# Altium integrated library Renesas Microcontroller R8C.IntLib: 628 symbols (part 33 of 33)
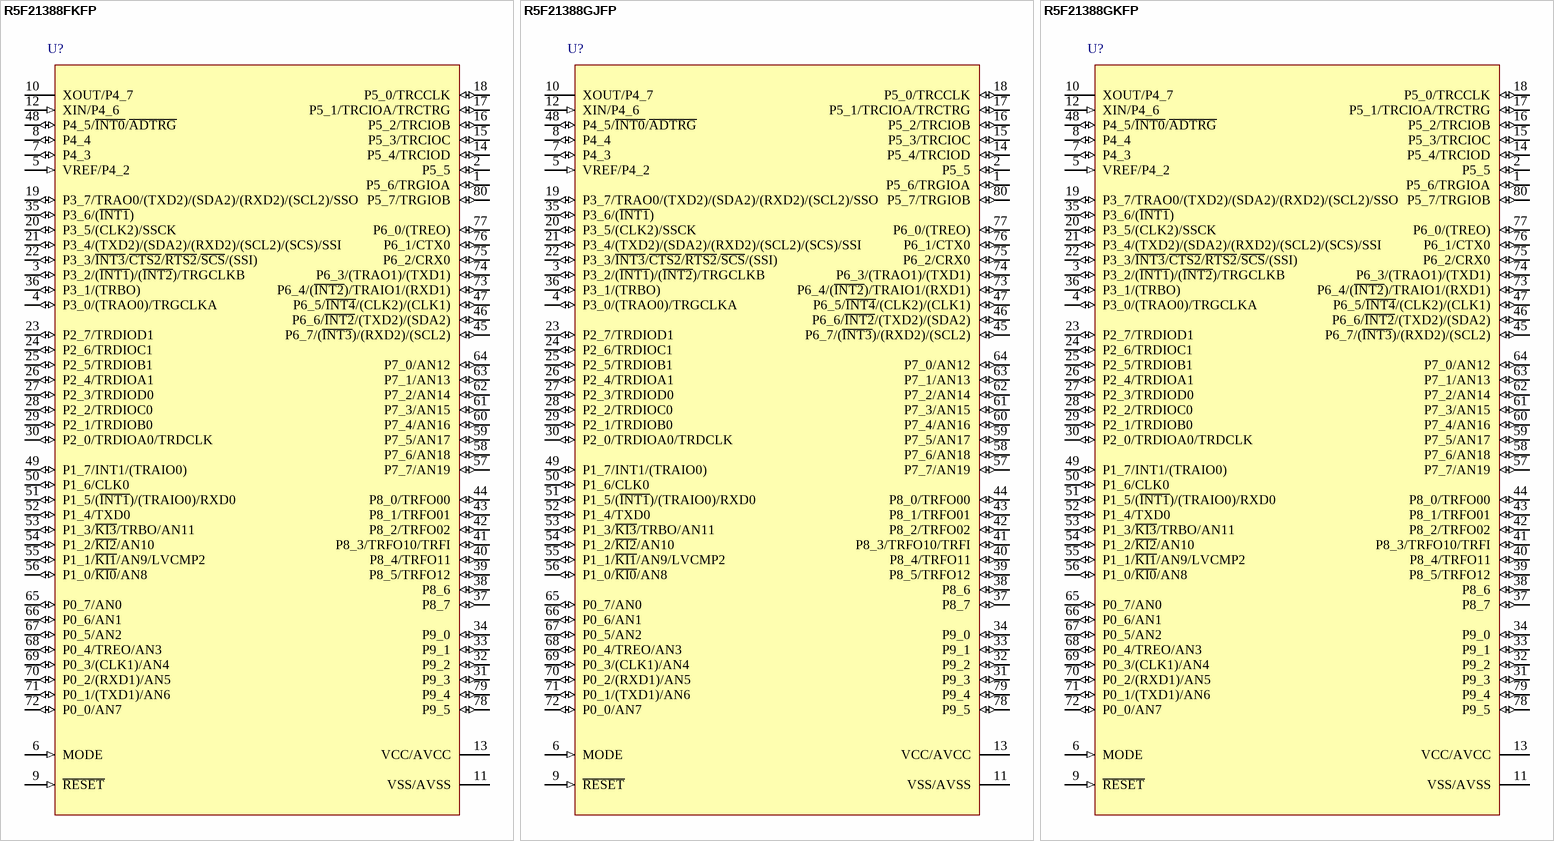
[diagram p148: symbols R5F21388FKFP to R5F21388GKFP]

## R5F21388GKFP
designator U?
R8C/38G Group Single Chip 16-Bit CMOS MCU, 64K ROM + 1K x4 Data Flash, 6K RAM, K Version; Published: 30-Oct-2009; DatasheetVersion: Rev.0.10, Apr-2008; PackageVersion: Sep-2005; PackageReference: PLQP0080KB-A; Publisher: Altium Limited; PackageDescription: 80-Pin Plastic Low Profile QFP, 12 x 12 x 1.4 mm Body, 0.5 mm Pitch; Code_JEITA: P-LQFP80-12x12-0.50; Code_IPC: SQFP50P1400X1400-80; ComponentLink1Description: Manufacturer Link; ComponentLink1URL: http://sg.renesas.com/fmwk.jsp?cnt=r8c_family_landing.jsp&fp=/products/mpumcu/r8c_family/; ComponentLink2Description: Datasheet; ComponentLink2URL: http://documentation.renesas.com/eng/products/mpumcu/rej03b0248_r8c38ess.pdf; ComponentLink3Description: Packaging Specification; ComponentLink3URL: http://sg.renesas.com/media/products/common_info/package/pdf/ic/code/plqp0080kb_a.pdf
footprint PLQP0080KB-A_N (Shrink QFP, 80-Leads, Body 12x12mm, Pitch 0.5mm, IPC Medium Density)
footprint PLQP0080KB-A_L (Shrink QFP, 80-Leads, Body 12x12mm, Pitch 0.5mm, IPC High Density)
footprint PLQP0080KB-A_M (Shrink QFP, 80-Leads, Body 12x12mm, Pitch 0.5mm, IPC Low Density)
pins: 1 P5_6/TRGIOA (io), 2 P5_5 (io), 3 P3_2/(~{INT1})/(~{INT2})/TRGCLKB (io), 4 P3_0/(TRAO0)/TRGCLKA (io), 5 VREF/P4_2 (in), 6 MODE (in), 7 P4_3 (io), 8 P4_4 (io), 9 ~{RESET} (in), 10 XOUT/P4_7, 11 VSS/AVSS (power), 12 XIN/P4_6 (in), 13 VCC/AVCC (power), 14 P5_4/TRCIOD (io), 15 P5_3/TRCIOC (io), 16 P5_2/TRCIOB (io), 17 P5_1/TRCIOA/TRCTRG (io), 18 P5_0/TRCCLK (io), 19 P3_7/TRAO0/(TXD2)/(SDA2)/(RXD2)/(SCL2)/SSO (io), 20 P3_5/(CLK2)/SSCK (io), 21 P3_4/(TXD2)/(SDA2)/(RXD2)/(SCL2)/(SCS)/SSI (io), 22 P3_3/~{INT3}/~{CTS2}/~{RTS2}/~{SCS}/(SSI) (io), 23 P2_7/TRDIOD1 (io), 24 P2_6/TRDIOC1 (io), 25 P2_5/TRDIOB1 (io), 26 P2_4/TRDIOA1 (io), 27 P2_3/TRDIOD0 (io), 28 P2_2/TRDIOC0 (io), 29 P2_1/TRDIOB0 (io), 30 P2_0/TRDIOA0/TRDCLK (io), 31 P9_3 (io), 32 P9_2 (io), 33 P9_1 (io), 34 P9_0 (io), 35 P3_6/(~{INT1}) (io), 36 P3_1/(TRBO) (io), 37 P8_7 (io), 38 P8_6 (io), 39 P8_5/TRFO12 (io), 40 P8_4/TRFO11 (io), 41 P8_3/TRFO10/TRFI (io), 42 P8_2/TRFO02 (io), 43 P8_1/TRFO01 (io), 44 P8_0/TRFO00 (io), 45 P6_7/(~{INT3})/(RXD2)/(SCL2) (io), 46 P6_6/~{INT2}/(TXD2)/(SDA2) (io), 47 P6_5/~{INT4}/(CLK2)/(CLK1) (io), 48 P4_5/~{INT0}/~{ADTRG} (io), 49 P1_7/INT1/(TRAIO0) (io), 50 P1_6/CLK0 (io), 51 P1_5/(~{INT1})/(TRAIO0)/RXD0 (io), 52 P1_4/TXD0 (io), 53 P1_3/~{KI3}/TRBO/AN11 (io), 54 P1_2/~{KI2}/AN10 (io), 55 P1_1/~{KI1}/AN9/LVCMP2 (io), 56 P1_0/~{KI0}/AN8 (io), 57 P7_7/AN19 (io), 58 P7_6/AN18 (io), 59 P7_5/AN17 (io), 60 P7_4/AN16 (io), 61 P7_3/AN15 (io), 62 P7_2/AN14 (io), 63 P7_1/AN13 (io), 64 P7_0/AN12 (io), 65 P0_7/AN0 (io), 66 P0_6/AN1 (io), 67 P0_5/AN2 (io), 68 P0_4/TREO/AN3 (io), 69 P0_3/(CLK1)/AN4 (io), 70 P0_2/(RXD1)/AN5 (io), 71 P0_1/(TXD1)/AN6 (io), 72 P0_0/AN7 (io), 73 P6_4/(~{INT2})/TRAIO1/(RXD1) (io), 74 P6_3/(TRAO1)/(TXD1) (io), 75 P6_2/CRX0 (io), 76 P6_1/CTX0 (io), 77 P6_0/(TREO) (io), 78 P9_5 (io), 79 P9_4 (io), 80 P5_7/TRGIOB (io)

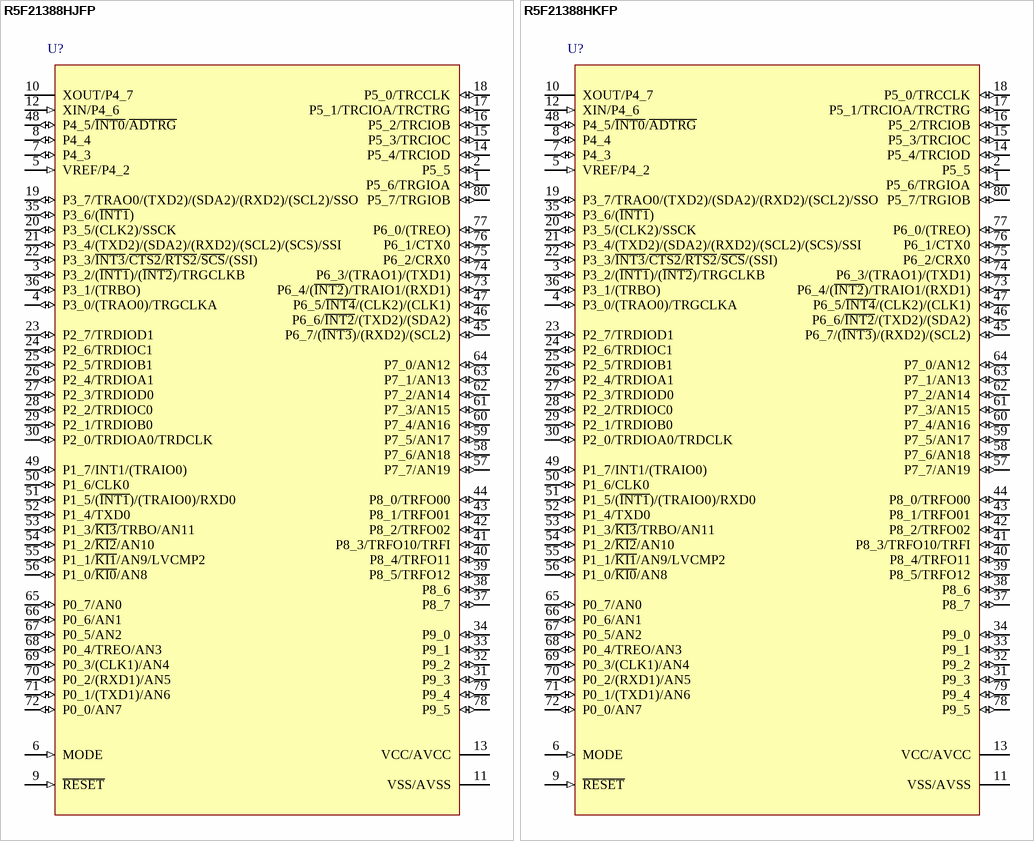
[diagram p116: symbols R5F21388HJFP to R5F21388HKFP]

## R5F21388HJFP
designator U?
R8C/38H Group Single Chip 16-Bit CMOS MCU, 64K ROM, 6K RAM, J Version; Published: 30-Oct-2009; DatasheetVersion: Rev.0.10, Apr-2008; PackageVersion: Sep-2005; PackageReference: PLQP0080KB-A; Publisher: Altium Limited; PackageDescription: 80-Pin Plastic Low Profile QFP, 12 x 12 x 1.4 mm Body, 0.5 mm Pitch; Code_JEITA: P-LQFP80-12x12-0.50; Code_IPC: SQFP50P1400X1400-80; ComponentLink1Description: Manufacturer Link; ComponentLink1URL: http://sg.renesas.com/fmwk.jsp?cnt=r8c_family_landing.jsp&fp=/products/mpumcu/r8c_family/; ComponentLink2Description: Datasheet; ComponentLink2URL: http://documentation.renesas.com/eng/products/mpumcu/rej03b0248_r8c38ess.pdf; ComponentLink3Description: Packaging Specification; ComponentLink3URL: http://sg.renesas.com/media/products/common_info/package/pdf/ic/code/plqp0080kb_a.pdf
footprint PLQP0080KB-A_N (Shrink QFP, 80-Leads, Body 12x12mm, Pitch 0.5mm, IPC Medium Density)
footprint PLQP0080KB-A_L (Shrink QFP, 80-Leads, Body 12x12mm, Pitch 0.5mm, IPC High Density)
footprint PLQP0080KB-A_M (Shrink QFP, 80-Leads, Body 12x12mm, Pitch 0.5mm, IPC Low Density)
pins: 1 P5_6/TRGIOA (io), 2 P5_5 (io), 3 P3_2/(~{INT1})/(~{INT2})/TRGCLKB (io), 4 P3_0/(TRAO0)/TRGCLKA (io), 5 VREF/P4_2 (in), 6 MODE (in), 7 P4_3 (io), 8 P4_4 (io), 9 ~{RESET} (in), 10 XOUT/P4_7, 11 VSS/AVSS (power), 12 XIN/P4_6 (in), 13 VCC/AVCC (power), 14 P5_4/TRCIOD (io), 15 P5_3/TRCIOC (io), 16 P5_2/TRCIOB (io), 17 P5_1/TRCIOA/TRCTRG (io), 18 P5_0/TRCCLK (io), 19 P3_7/TRAO0/(TXD2)/(SDA2)/(RXD2)/(SCL2)/SSO (io), 20 P3_5/(CLK2)/SSCK (io), 21 P3_4/(TXD2)/(SDA2)/(RXD2)/(SCL2)/(SCS)/SSI (io), 22 P3_3/~{INT3}/~{CTS2}/~{RTS2}/~{SCS}/(SSI) (io), 23 P2_7/TRDIOD1 (io), 24 P2_6/TRDIOC1 (io), 25 P2_5/TRDIOB1 (io), 26 P2_4/TRDIOA1 (io), 27 P2_3/TRDIOD0 (io), 28 P2_2/TRDIOC0 (io), 29 P2_1/TRDIOB0 (io), 30 P2_0/TRDIOA0/TRDCLK (io), 31 P9_3 (io), 32 P9_2 (io), 33 P9_1 (io), 34 P9_0 (io), 35 P3_6/(~{INT1}) (io), 36 P3_1/(TRBO) (io), 37 P8_7 (io), 38 P8_6 (io), 39 P8_5/TRFO12 (io), 40 P8_4/TRFO11 (io), 41 P8_3/TRFO10/TRFI (io), 42 P8_2/TRFO02 (io), 43 P8_1/TRFO01 (io), 44 P8_0/TRFO00 (io), 45 P6_7/(~{INT3})/(RXD2)/(SCL2) (io), 46 P6_6/~{INT2}/(TXD2)/(SDA2) (io), 47 P6_5/~{INT4}/(CLK2)/(CLK1) (io), 48 P4_5/~{INT0}/~{ADTRG} (io), 49 P1_7/INT1/(TRAIO0) (io), 50 P1_6/CLK0 (io), 51 P1_5/(~{INT1})/(TRAIO0)/RXD0 (io), 52 P1_4/TXD0 (io), 53 P1_3/~{KI3}/TRBO/AN11 (io), 54 P1_2/~{KI2}/AN10 (io), 55 P1_1/~{KI1}/AN9/LVCMP2 (io), 56 P1_0/~{KI0}/AN8 (io), 57 P7_7/AN19 (io), 58 P7_6/AN18 (io), 59 P7_5/AN17 (io), 60 P7_4/AN16 (io), 61 P7_3/AN15 (io), 62 P7_2/AN14 (io), 63 P7_1/AN13 (io), 64 P7_0/AN12 (io), 65 P0_7/AN0 (io), 66 P0_6/AN1 (io), 67 P0_5/AN2 (io), 68 P0_4/TREO/AN3 (io), 69 P0_3/(CLK1)/AN4 (io), 70 P0_2/(RXD1)/AN5 (io), 71 P0_1/(TXD1)/AN6 (io), 72 P0_0/AN7 (io), 73 P6_4/(~{INT2})/TRAIO1/(RXD1) (io), 74 P6_3/(TRAO1)/(TXD1) (io), 75 P6_2/CRX0 (io), 76 P6_1/CTX0 (io), 77 P6_0/(TREO) (io), 78 P9_5 (io), 79 P9_4 (io), 80 P5_7/TRGIOB (io)

## R5F21388HKFP
designator U?
R8C/38H Group Single Chip 16-Bit CMOS MCU, 64K ROM, 6K RAM, K Version; Published: 30-Oct-2009; DatasheetVersion: Rev.0.10, Apr-2008; PackageVersion: Sep-2005; PackageReference: PLQP0080KB-A; Publisher: Altium Limited; PackageDescription: 80-Pin Plastic Low Profile QFP, 12 x 12 x 1.4 mm Body, 0.5 mm Pitch; Code_JEITA: P-LQFP80-12x12-0.50; Code_IPC: SQFP50P1400X1400-80; ComponentLink1Description: Manufacturer Link; ComponentLink1URL: http://sg.renesas.com/fmwk.jsp?cnt=r8c_family_landing.jsp&fp=/products/mpumcu/r8c_family/; ComponentLink2Description: Datasheet; ComponentLink2URL: http://documentation.renesas.com/eng/products/mpumcu/rej03b0248_r8c38ess.pdf; ComponentLink3Description: Packaging Specification; ComponentLink3URL: http://sg.renesas.com/media/products/common_info/package/pdf/ic/code/plqp0080kb_a.pdf
footprint PLQP0080KB-A_N (Shrink QFP, 80-Leads, Body 12x12mm, Pitch 0.5mm, IPC Medium Density)
footprint PLQP0080KB-A_L (Shrink QFP, 80-Leads, Body 12x12mm, Pitch 0.5mm, IPC High Density)
footprint PLQP0080KB-A_M (Shrink QFP, 80-Leads, Body 12x12mm, Pitch 0.5mm, IPC Low Density)
pins: 1 P5_6/TRGIOA (io), 2 P5_5 (io), 3 P3_2/(~{INT1})/(~{INT2})/TRGCLKB (io), 4 P3_0/(TRAO0)/TRGCLKA (io), 5 VREF/P4_2 (in), 6 MODE (in), 7 P4_3 (io), 8 P4_4 (io), 9 ~{RESET} (in), 10 XOUT/P4_7, 11 VSS/AVSS (power), 12 XIN/P4_6 (in), 13 VCC/AVCC (power), 14 P5_4/TRCIOD (io), 15 P5_3/TRCIOC (io), 16 P5_2/TRCIOB (io), 17 P5_1/TRCIOA/TRCTRG (io), 18 P5_0/TRCCLK (io), 19 P3_7/TRAO0/(TXD2)/(SDA2)/(RXD2)/(SCL2)/SSO (io), 20 P3_5/(CLK2)/SSCK (io), 21 P3_4/(TXD2)/(SDA2)/(RXD2)/(SCL2)/(SCS)/SSI (io), 22 P3_3/~{INT3}/~{CTS2}/~{RTS2}/~{SCS}/(SSI) (io), 23 P2_7/TRDIOD1 (io), 24 P2_6/TRDIOC1 (io), 25 P2_5/TRDIOB1 (io), 26 P2_4/TRDIOA1 (io), 27 P2_3/TRDIOD0 (io), 28 P2_2/TRDIOC0 (io), 29 P2_1/TRDIOB0 (io), 30 P2_0/TRDIOA0/TRDCLK (io), 31 P9_3 (io), 32 P9_2 (io), 33 P9_1 (io), 34 P9_0 (io), 35 P3_6/(~{INT1}) (io), 36 P3_1/(TRBO) (io), 37 P8_7 (io), 38 P8_6 (io), 39 P8_5/TRFO12 (io), 40 P8_4/TRFO11 (io), 41 P8_3/TRFO10/TRFI (io), 42 P8_2/TRFO02 (io), 43 P8_1/TRFO01 (io), 44 P8_0/TRFO00 (io), 45 P6_7/(~{INT3})/(RXD2)/(SCL2) (io), 46 P6_6/~{INT2}/(TXD2)/(SDA2) (io), 47 P6_5/~{INT4}/(CLK2)/(CLK1) (io), 48 P4_5/~{INT0}/~{ADTRG} (io), 49 P1_7/INT1/(TRAIO0) (io), 50 P1_6/CLK0 (io), 51 P1_5/(~{INT1})/(TRAIO0)/RXD0 (io), 52 P1_4/TXD0 (io), 53 P1_3/~{KI3}/TRBO/AN11 (io), 54 P1_2/~{KI2}/AN10 (io), 55 P1_1/~{KI1}/AN9/LVCMP2 (io), 56 P1_0/~{KI0}/AN8 (io), 57 P7_7/AN19 (io), 58 P7_6/AN18 (io), 59 P7_5/AN17 (io), 60 P7_4/AN16 (io), 61 P7_3/AN15 (io), 62 P7_2/AN14 (io), 63 P7_1/AN13 (io), 64 P7_0/AN12 (io), 65 P0_7/AN0 (io), 66 P0_6/AN1 (io), 67 P0_5/AN2 (io), 68 P0_4/TREO/AN3 (io), 69 P0_3/(CLK1)/AN4 (io), 70 P0_2/(RXD1)/AN5 (io), 71 P0_1/(TXD1)/AN6 (io), 72 P0_0/AN7 (io), 73 P6_4/(~{INT2})/TRAIO1/(RXD1) (io), 74 P6_3/(TRAO1)/(TXD1) (io), 75 P6_2/CRX0 (io), 76 P6_1/CTX0 (io), 77 P6_0/(TREO) (io), 78 P9_5 (io), 79 P9_4 (io), 80 P5_7/TRGIOB (io)